# EAGLE library part SN74LV4052APWR (library ruark2)
Dual 4-Channel Analog Multiplexer
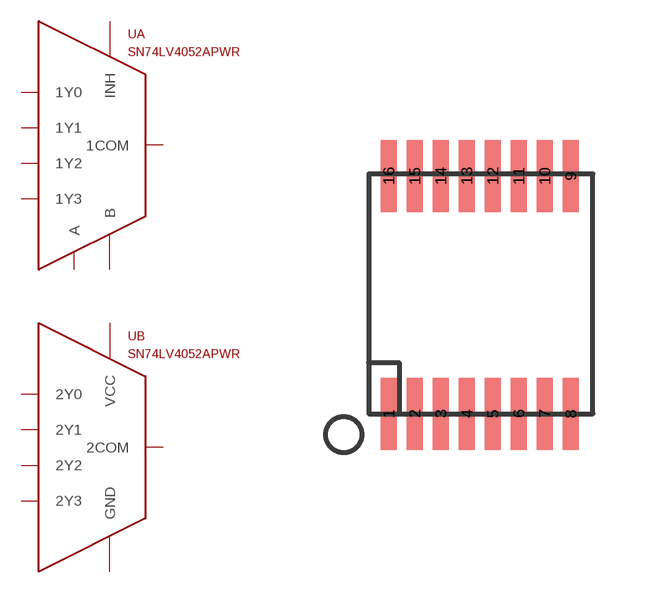
[diagram p35: symbol with the pads of TSSOP16; footprint TSSOP16]

Designator prefix U; gates A=MUX_4_1 B=MUX_4_1_PWR

## SN74LV4052APWR (PARTNO: 296-3831-1-ND)  [TSSOP16]
1  B:2Y0  pas
2  B:2Y2  pas
3  B:2COM  pas
4  B:2Y3  pas
5  B:2Y1  pas
6  A:INH  pas
7  B:GND  pas
8  B:GND  pas
9  A:B  pas
10  A:A  pas
11  A:1Y3  pas
12  A:1Y0  pas
13  A:1COM  pas
14  A:1Y1  pas
15  A:1Y2  pas
16  B:VCC  pas

## Footprint TSSOP16 (pad centres in mm)
smd 0.4 x 1.8: 1 -2.275,-2.975; 2 -1.625,-2.975; 3 -0.975,-2.975; 4 -0.325,-2.975; 5 0.325,-2.975; 6 0.975,-2.975; 7 1.625,-2.975; 8 2.275,-2.975; 9 2.275,2.975; 10 1.625,2.975; 11 0.975,2.975; 12 0.325,2.975; 13 -0.325,2.975; 14 -0.975,2.975; 15 -1.625,2.975; 16 -2.275,2.975